# EAGLE library part AMC1311BDWVR (library AMC1311BDWVR)
Precision Reinforced Isolated Amplifier With High CMTI for Current Sensing Source: Datasheet <http://www.ti.com/lit/gpn/amc1311>
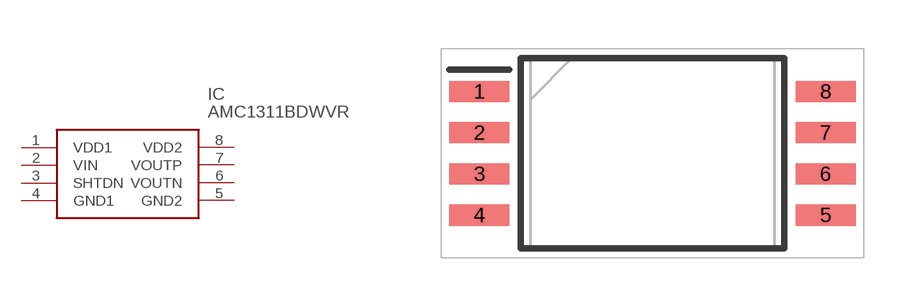
[diagram p0: symbol with the pads of SOIC127P1150X280-8N; footprint SOIC127P1150X280-8N]

Designator prefix IC

## AMC1311BDWVR (Description: Precision Reinforced Isolated Amplifier With High CMTI for Current Sensing; Height: 2.8mm; Manufacturer_Name: Texas Instruments; Manufacturer_Part_Number: AMC1311BDWVR; Mouser_Part_Number: 595-AMC1311BDWVR; Mouser_Price-Stock: https://www.mouser.co.uk/ProductDetail/Texas-Instruments/AMC1311BDWVR?qs=W0yvOO0ixfFQekR98E4CkQ%3D%3D)  [SOIC127P1150X280-8N]
1  VDD1
2  VIN
3  SHTDN
4  GND1
5  GND2
6  VOUTN
7  VOUTP
8  VDD2

## Footprint SOIC127P1150X280-8N (pad centres in mm)
DWV0008A
smd 1.85 x 0.65: 1 -5.325,1.905; 2 -5.325,0.635; 3 -5.325,-0.635; 4 -5.325,-1.905; 5 5.325,-1.905; 6 5.325,-0.635; 7 5.325,0.635; 8 5.325,1.905